# Altium footprint library VRG8657_1.PcbLib: 1 footprints
Each footprint in its own frame and in the unit in brackets; x right, y up, seen from the top. Pads: shape width x height; smd on the part's side, far side on the other; paste and mask are expansions set on the pad; w line width, h text height; cw(c..) or ccw(c..) is an arc to the next point about the centre after c.
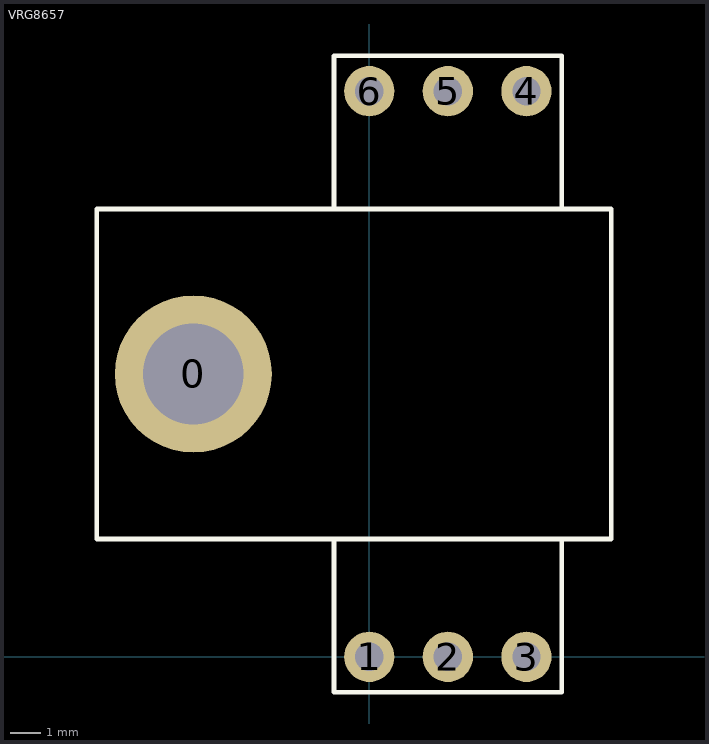
[diagram p0: the footprint, top view; thin cyan lines are the x and y axes]

## VRG8657 [mil]
pads (7):
  round 200 hole 128: 0(-224,360)
  round 64 hole 36: 1(0,0) 2(100,0) 3(200,0) 4(200,720) 5(100,720) 6(0,720)
TopOverlay:
  lines w6: -45,150 -45,-45 245,-45 245,150 ; -45,570 -45,765 245,765 245,570 ; -347,150 308,150 308,570 -347,570 -347,150